# Altium integrated library NSC LDO.IntLib: 2590 symbols (part 9 of 64)
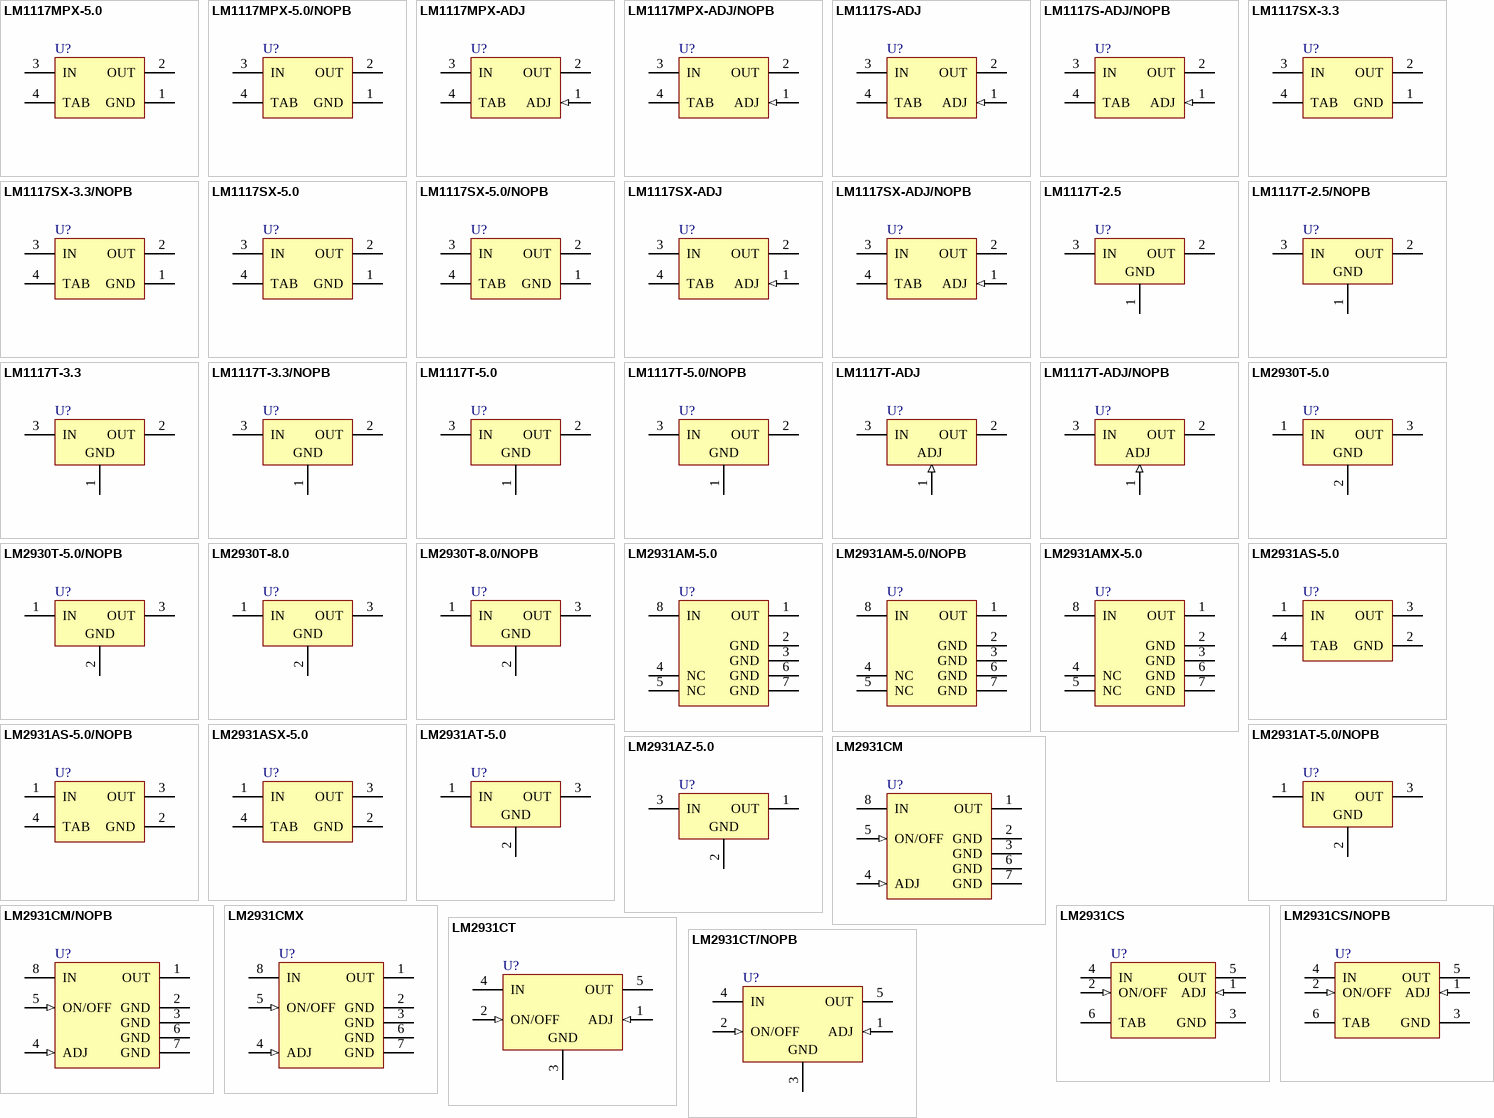
[diagram p73: symbols LM1117MPX-5.0 to LM2931CT/NOPB]

## LM2931CM/NOPB
designator U?
Series Low Dropout Regulators, 8-pin Narrow SOIC, Pb-Free; PartNumber: LM2931CM/NOPB; Manufacturer: National Semiconductor; PackageTopMarking: NSZXTT*LM29*31CM; PowerWise: N; CompType: LDO IC; Published: 1-Mar-2010; DatasheetVersion: Jul-2005; PackageVersion: revM, May-2009; PackageReference: M08A; Publisher: Altium Limited; PackageDescription: SOIC Narrow, 4.9 x 3.9 x 1.45mm, 8 Lead, 1.27mm Pitch; Supplier 1: Digi-Key; Supplier Part Number 1: LM2931CM-ND; Supplier 2: Farnell; Supplier Part Number 2: 1496124; RoHS: Y; PinCount: 8; Code_JEDEC: MS-012-AA; Code_IPC: SOIC127P600-8; ComponentLink1Description: LM2931 Datasheet; ComponentLink1URL: http://www.national.com/ds/LM/LM2931.pdf; ComponentLink2Description: LM2931 Web Page; ComponentLink2URL: http://www.national.com/pf/LM/LM2931.html; ComponentLink3Description: M08A Package Page; ComponentLink3URL: http://www.national.com/packaging/folders/m08a.html
footprint M08A_N (SOIC, 8-Leads, Body 4.9x3.9mm, Pitch 1.27mm, IPC Medium Density)
footprint M08A_L (SOIC, 8-Leads, Body 4.9x3.9mm, Pitch 1.27mm, IPC High Density)
footprint M08A_M (SOIC, 8-Leads, Body 4.9x3.9mm, Pitch 1.27mm, IPC Low Density)
pins: 1 OUT (power), 2 GND (power), 3 GND (power), 4 ADJ (in), 5 ON/OFF (in), 6 GND (power), 7 GND (power), 8 IN (power)

## LM2931CMX
designator U?
Series Low Dropout Regulators, 8-pin Narrow SOIC; PartNumber: LM2931CMX; Manufacturer: National Semiconductor; PackageTopMarking: NSZXTT*LM29*31CM; PowerWise: N; CompType: LDO IC; Published: 1-Mar-2010; DatasheetVersion: Jul-2005; PackageVersion: revM, May-2009; PackageReference: M08A; Publisher: Altium Limited; PackageDescription: SOIC Narrow, 4.9 x 3.9 x 1.45mm, 8 Lead, 1.27mm Pitch; RoHS: N; PinCount: 8; Code_JEDEC: MS-012-AA; Code_IPC: SOIC127P600-8; ComponentLink1Description: LM2931 Datasheet; ComponentLink1URL: http://www.national.com/ds/LM/LM2931.pdf; ComponentLink2Description: LM2931 Web Page; ComponentLink2URL: http://www.national.com/pf/LM/LM2931.html; ComponentLink3Description: M08A Package Page; ComponentLink3URL: http://www.national.com/packaging/folders/m08a.html
footprint M08A_N (SOIC, 8-Leads, Body 4.9x3.9mm, Pitch 1.27mm, IPC Medium Density)
footprint M08A_L (SOIC, 8-Leads, Body 4.9x3.9mm, Pitch 1.27mm, IPC High Density)
footprint M08A_M (SOIC, 8-Leads, Body 4.9x3.9mm, Pitch 1.27mm, IPC Low Density)
pins: 1 OUT (power), 2 GND (power), 3 GND (power), 4 ADJ (in), 5 ON/OFF (in), 6 GND (power), 7 GND (power), 8 IN (power)

## LM2931CS
designator U?
Series Low Dropout Regulators, 5-pin TO-263; PartNumber: LM2931CS; Manufacturer: National Semiconductor; PackageTopMarking: NSUZXYTTE#*LM2931CS; PowerWise: N; CompType: LDO IC; Published: 4-Dec-2008; DatasheetVersion: Jul-2005; PackageVersion: revD, Apr-2005; PackageReference: TS5B; Publisher: Altium Limited; PackageDescription: TO-263, Molded, .400 x .390 x .180in, 5 Lead, .067in Pitch, Surface Mount; Supplier 1: Digi-Key; Supplier Part Number 1: LM2931CS-ND; RoHS: N; PinCount: 5; Code_JEDEC: MO-169-AB; ComponentLink1Description: LM2931 Datasheet; ComponentLink1URL: http://www.national.com/ds/LM/LM2931.pdf; ComponentLink2Description: LM2931 Web Page; ComponentLink2URL: http://www.national.com/pf/LM/LM2931.html; ComponentLink3Description: TS5B Package Page; ComponentLink3URL: http://www.national.com/packaging/folders/ts5b.html
footprint TS5B_N (D2-PAK, 6-Leads, Body 8.6x10.2mm, Pitch 1.7mm, Lead Span 14.1mm, IPC Medium Density)
footprint TS5B_L (D2-PAK, 6-Leads, Body 8.6x10.2mm, Pitch 1.7mm, Lead Span 14.1mm, IPC High Density)
footprint TS5B_M (D2-PAK, 6-Leads, Body 8.6x10.2mm, Pitch 1.7mm, Lead Span 14.1mm, IPC Low Density)
pins: 1 ADJ (in), 2 ON/OFF (in), 3 GND (power), 4 IN (power), 5 OUT (power), 6 TAB (power)

## LM2931CS/NOPB
designator U?
Series Low Dropout Regulators, 5-pin TO-263, Pb-Free; PartNumber: LM2931CS/NOPB; Manufacturer: National Semiconductor; PackageTopMarking: NSUZXYTTE#*LM2931CS; PowerWise: N; CompType: LDO IC; Published: 1-Mar-2010; DatasheetVersion: Jul-2005; PackageVersion: revD, Apr-2005; PackageReference: TS5B; Publisher: Altium Limited; PackageDescription: TO-263, Molded, .400 x .390 x .180in, 5 Lead, .067in Pitch, Surface Mount; Supplier 1: Digi-Key; Supplier Part Number 1: LM2931CS/NOPB-ND; Supplier 2: Farnell; Supplier Part Number 2: 1685505; RoHS: Y; PinCount: 5; Code_JEDEC: MO-169-AB; ComponentLink1Description: LM2931 Datasheet; ComponentLink1URL: http://www.national.com/ds/LM/LM2931.pdf; ComponentLink2Description: LM2931 Web Page; ComponentLink2URL: http://www.national.com/pf/LM/LM2931.html; ComponentLink3Description: TS5B Package Page; ComponentLink3URL: http://www.national.com/packaging/folders/ts5b.html
footprint TS5B_N (D2-PAK, 6-Leads, Body 8.6x10.2mm, Pitch 1.7mm, Lead Span 14.1mm, IPC Medium Density)
footprint TS5B_L (D2-PAK, 6-Leads, Body 8.6x10.2mm, Pitch 1.7mm, Lead Span 14.1mm, IPC High Density)
footprint TS5B_M (D2-PAK, 6-Leads, Body 8.6x10.2mm, Pitch 1.7mm, Lead Span 14.1mm, IPC Low Density)
pins: 1 ADJ (in), 2 ON/OFF (in), 3 GND (power), 4 IN (power), 5 OUT (power), 6 TAB (power)

## LM2931CT
designator U?
Series Low Dropout Regulators, 5-pin TO-220; PartNumber: LM2931CT; Manufacturer: National Semiconductor; PackageTopMarking: NSUZXYTTE#*LM2931CT; PowerWise: N; CompType: LDO IC; Published: 4-Dec-2008; DatasheetVersion: Jul-2005; PackageVersion: revJ, Jan-1992; PackageReference: T05A; Publisher: Altium Limited; PackageDescription: TO-220, Molded, 5 Lead, Straight; Supplier 1: Farnell; Supplier Part Number 1: 9489363; RoHS: N; PinCount: 5; Code_JEDEC: TO-220-AB; ComponentLink1Description: LM2931 Datasheet; ComponentLink1URL: http://www.national.com/ds/LM/LM2931.pdf; ComponentLink2Description: LM2931 Web Page; ComponentLink2URL: http://www.national.com/pf/LM/LM2931.html; ComponentLink3Description: T05A Package Page; ComponentLink3URL: http://www.national.com/packaging/folders/t05a.html
footprint T05A (TO, Thru-Hole, Vertical, Heatsink Mounted; 5 In-Line Leads; Pitch 1.70 mm)
pins: 1 ADJ (in), 2 ON/OFF (in), 3 GND (power), 4 IN (power), 5 OUT (power)

## LM2931CT/NOPB
designator U?
Series Low Dropout Regulators, 5-pin TO-220, Pb-Free; PartNumber: LM2931CT/NOPB; Manufacturer: National Semiconductor; PackageTopMarking: NSUZXYTTE#*LM2931CT; PowerWise: N; CompType: LDO IC; Published: 1-Mar-2010; DatasheetVersion: Jul-2005; PackageVersion: revJ, Jan-1992; PackageReference: T05A; Publisher: Altium Limited; PackageDescription: TO-220, Molded, 5 Lead, Straight; Supplier 1: Digi-Key; Supplier Part Number 1: LM2931CTNS-ND; Supplier 2: Farnell; Supplier Part Number 2: 1150128; RoHS: Y; PinCount: 5; Code_JEDEC: TO-220-AB; ComponentLink1Description: LM2931 Datasheet; ComponentLink1URL: http://www.national.com/ds/LM/LM2931.pdf; ComponentLink2Description: LM2931 Web Page; ComponentLink2URL: http://www.national.com/pf/LM/LM2931.html; ComponentLink3Description: T05A Package Page; ComponentLink3URL: http://www.national.com/packaging/folders/t05a.html
footprint T05A (TO, Thru-Hole, Vertical, Heatsink Mounted; 5 In-Line Leads; Pitch 1.70 mm)
pins: 1 ADJ (in), 2 ON/OFF (in), 3 GND (power), 4 IN (power), 5 OUT (power)

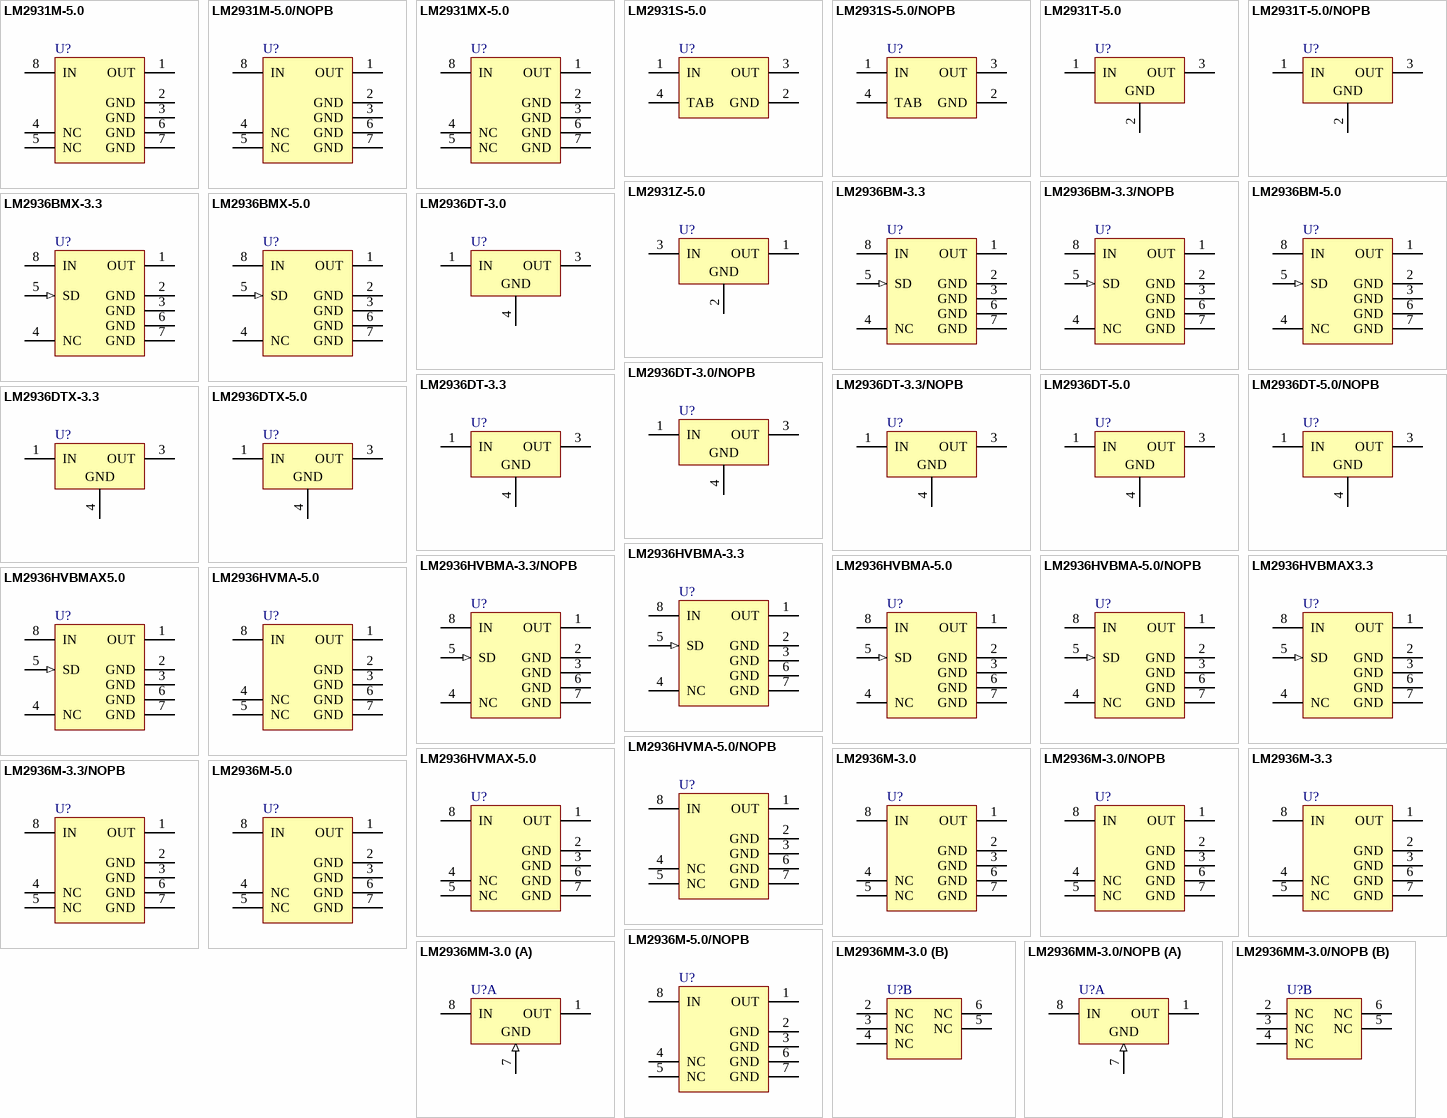
[diagram p9: symbols LM2931M-5.0 to LM2936MM-3.0/NOPB]

## LM2931M-5.0
designator U?
Series Low Dropout Regulators, 8-pin Narrow SOIC; PartNumber: LM2931M-5.0; Manufacturer: National Semiconductor; PackageTopMarking: NSZXTT*2931*M-5.0; PowerWise: N; CompType: LDO IC; Published: 4-Dec-2008; DatasheetVersion: Jul-2005; PackageVersion: revM, May-2009; PackageReference: M08A; Publisher: Altium Limited; PackageDescription: SOIC Narrow, 4.9 x 3.9 x 1.45mm, 8 Lead, 1.27mm Pitch; Supplier 1: Farnell; Supplier Part Number 1: 9493433; RoHS: N; PinCount: 8; Code_JEDEC: MS-012-AA; Code_IPC: SOIC127P600-8; ComponentLink1Description: LM2931 Datasheet; ComponentLink1URL: http://www.national.com/ds/LM/LM2931.pdf; ComponentLink2Description: LM2931 Web Page; ComponentLink2URL: http://www.national.com/pf/LM/LM2931.html; ComponentLink3Description: M08A Package Page; ComponentLink3URL: http://www.national.com/packaging/folders/m08a.html
footprint M08A_N (SOIC, 8-Leads, Body 4.9x3.9mm, Pitch 1.27mm, IPC Medium Density)
footprint M08A_L (SOIC, 8-Leads, Body 4.9x3.9mm, Pitch 1.27mm, IPC High Density)
footprint M08A_M (SOIC, 8-Leads, Body 4.9x3.9mm, Pitch 1.27mm, IPC Low Density)
pins: 1 OUT (power), 2 GND (power), 3 GND (power), 4 NC, 5 NC, 6 GND (power), 7 GND (power), 8 IN (power)

## LM2931M-5.0/NOPB
designator U?
Series Low Dropout Regulators, 8-pin Narrow SOIC, Pb-Free; PartNumber: LM2931M-5.0/NOPB; Manufacturer: National Semiconductor; PackageTopMarking: NSZXTT*2931*M-5.0; PowerWise: N; CompType: LDO IC; Published: 1-Mar-2010; DatasheetVersion: Jul-2005; PackageVersion: revM, May-2009; PackageReference: M08A; Publisher: Altium Limited; PackageDescription: SOIC Narrow, 4.9 x 3.9 x 1.45mm, 8 Lead, 1.27mm Pitch; Supplier 1: Digi-Key; Supplier Part Number 1: LM2931M-5.0-ND; Supplier 2: Farnell; Supplier Part Number 2: 1564639; RoHS: Y; PinCount: 8; Code_JEDEC: MS-012-AA; Code_IPC: SOIC127P600-8; ComponentLink1Description: LM2931 Datasheet; ComponentLink1URL: http://www.national.com/ds/LM/LM2931.pdf; ComponentLink2Description: LM2931 Web Page; ComponentLink2URL: http://www.national.com/pf/LM/LM2931.html; ComponentLink3Description: M08A Package Page; ComponentLink3URL: http://www.national.com/packaging/folders/m08a.html
footprint M08A_N (SOIC, 8-Leads, Body 4.9x3.9mm, Pitch 1.27mm, IPC Medium Density)
footprint M08A_L (SOIC, 8-Leads, Body 4.9x3.9mm, Pitch 1.27mm, IPC High Density)
footprint M08A_M (SOIC, 8-Leads, Body 4.9x3.9mm, Pitch 1.27mm, IPC Low Density)
pins: 1 OUT (power), 2 GND (power), 3 GND (power), 4 NC, 5 NC, 6 GND (power), 7 GND (power), 8 IN (power)

## LM2931MX-5.0
designator U?
Series Low Dropout Regulators, 8-pin Narrow SOIC; PartNumber: LM2931MX-5.0; Manufacturer: National Semiconductor; PackageTopMarking: NSZXTT*2931*M-5.0; PowerWise: N; CompType: LDO IC; Published: 1-Mar-2010; DatasheetVersion: Jul-2005; PackageVersion: revM, May-2009; PackageReference: M08A; Publisher: Altium Limited; PackageDescription: SOIC Narrow, 4.9 x 3.9 x 1.45mm, 8 Lead, 1.27mm Pitch; RoHS: N; PinCount: 8; Code_JEDEC: MS-012-AA; Code_IPC: SOIC127P600-8; ComponentLink1Description: LM2931 Datasheet; ComponentLink1URL: http://www.national.com/ds/LM/LM2931.pdf; ComponentLink2Description: LM2931 Web Page; ComponentLink2URL: http://www.national.com/pf/LM/LM2931.html; ComponentLink3Description: M08A Package Page; ComponentLink3URL: http://www.national.com/packaging/folders/m08a.html
footprint M08A_N (SOIC, 8-Leads, Body 4.9x3.9mm, Pitch 1.27mm, IPC Medium Density)
footprint M08A_L (SOIC, 8-Leads, Body 4.9x3.9mm, Pitch 1.27mm, IPC High Density)
footprint M08A_M (SOIC, 8-Leads, Body 4.9x3.9mm, Pitch 1.27mm, IPC Low Density)
pins: 1 OUT (power), 2 GND (power), 3 GND (power), 4 NC, 5 NC, 6 GND (power), 7 GND (power), 8 IN (power)

## LM2931S-5.0
designator U?
Series Low Dropout Regulators, 3-pin TO-263; PartNumber: LM2931S-5.0; Manufacturer: National Semiconductor; PackageTopMarking: NSUZXYTTE#*LM2931S*5.0; PowerWise: N; CompType: LDO IC; Published: 4-Dec-2008; DatasheetVersion: Jul-2005; PackageVersion: revF, Apr-2005; PackageReference: TS3B; Publisher: Altium Limited; PackageDescription: TO-263, Molded, .400 x .390 x .180in, 3 Lead, .1in Pitch, Surface Mount; RoHS: N; PinCount: 3; Code_JEDEC: MO-169-AA; ComponentLink1Description: LM2931 Datasheet; ComponentLink1URL: http://www.national.com/ds/LM/LM2931.pdf; ComponentLink2Description: LM2931 Web Page; ComponentLink2URL: http://www.national.com/pf/LM/LM2931.html; ComponentLink3Description: TS3B Package Page; ComponentLink3URL: http://www.national.com/packaging/folders/ts3b.html
footprint TS3B_N (D2-PAK, 4-Leads, Body 8.6x10.2mm, Pitch 2.54mm, Lead Span 14.2mm, IPC Medium Density)
footprint TS3B_L (D2-PAK, 4-Leads, Body 8.6x10.2mm, Pitch 2.54mm, Lead Span 14.2mm, IPC High Density)
footprint TS3B_M (D2-PAK, 4-Leads, Body 8.6x10.2mm, Pitch 2.54mm, Lead Span 14.2mm, IPC Low Density)
pins: 1 IN (power), 2 GND (power), 3 OUT (power), 4 TAB (power)

## LM2931S-5.0/NOPB
designator U?
Series Low Dropout Regulators, 3-pin TO-263, Pb-Free; PartNumber: LM2931S-5.0/NOPB; Manufacturer: National Semiconductor; PackageTopMarking: NSUZXYTTE#*LM2931S*5.0; PowerWise: N; CompType: LDO IC; Published: 1-Mar-2010; DatasheetVersion: Jul-2005; PackageVersion: revF, Apr-2005; PackageReference: TS3B; Publisher: Altium Limited; PackageDescription: TO-263, Molded, .400 x .390 x .180in, 3 Lead, .1in Pitch, Surface Mount; Supplier 1: Digi-Key; Supplier Part Number 1: LM2931S-5.0-ND; Supplier 2: Farnell; Supplier Part Number 2: 1685635; RoHS: Y; PinCount: 3; Code_JEDEC: MO-169-AA; ComponentLink1Description: LM2931 Datasheet; ComponentLink1URL: http://www.national.com/ds/LM/LM2931.pdf; ComponentLink2Description: LM2931 Web Page; ComponentLink2URL: http://www.national.com/pf/LM/LM2931.html; ComponentLink3Description: TS3B Package Page; ComponentLink3URL: http://www.national.com/packaging/folders/ts3b.html
footprint TS3B_N (D2-PAK, 4-Leads, Body 8.6x10.2mm, Pitch 2.54mm, Lead Span 14.2mm, IPC Medium Density)
footprint TS3B_L (D2-PAK, 4-Leads, Body 8.6x10.2mm, Pitch 2.54mm, Lead Span 14.2mm, IPC High Density)
footprint TS3B_M (D2-PAK, 4-Leads, Body 8.6x10.2mm, Pitch 2.54mm, Lead Span 14.2mm, IPC Low Density)
pins: 1 IN (power), 2 GND (power), 3 OUT (power), 4 TAB (power)

## LM2931T-5.0
designator U?
Series Low Dropout Regulators, 3-pin TO-220; PartNumber: LM2931T-5.0; Manufacturer: National Semiconductor; PackageTopMarking: NSUZXYTTE#*LM2931T*5.0; PowerWise: N; CompType: LDO IC; Published: 4-Dec-2008; DatasheetVersion: Jul-2005; PackageVersion: revL, Jan-1992; PackageReference: T03B; Publisher: Altium Limited; PackageDescription: TO-220, Molded, 3 Lead, Straight; Supplier 1: Farnell; Supplier Part Number 1: 9489614; RoHS: N; PinCount: 3; ComponentLink1Description: LM2931 Datasheet; ComponentLink1URL: http://www.national.com/ds/LM/LM2931.pdf; ComponentLink2Description: LM2931 Web Page; ComponentLink2URL: http://www.national.com/pf/LM/LM2931.html; ComponentLink3Description: T03B Package Page; ComponentLink3URL: http://www.national.com/packaging/folders/t03b.html
footprint T03B (TO, Thru-Hole, Vertical, Heatsink Mounted; 3 In-Line Leads; Pitch 2.54 mm)
pins: 1 IN (power), 2 GND (power), 3 OUT (power)

## LM2931T-5.0/NOPB
designator U?
Series Low Dropout Regulators, 3-pin TO-220, Pb-Free; PartNumber: LM2931T-5.0/NOPB; Manufacturer: National Semiconductor; PackageTopMarking: NSUZXYTTE#*LM2931T*5.0; PowerWise: N; CompType: LDO IC; Published: 1-Mar-2010; DatasheetVersion: Jul-2005; PackageVersion: revL, Jan-1992; PackageReference: T03B; Publisher: Altium Limited; PackageDescription: TO-220, Molded, 3 Lead, Straight; Supplier 1: Digi-Key; Supplier Part Number 1: LM2931T-5.0NS-ND; Supplier 2: Farnell; Supplier Part Number 2: 1150130; RoHS: Y; PinCount: 3; ComponentLink1Description: LM2931 Datasheet; ComponentLink1URL: http://www.national.com/ds/LM/LM2931.pdf; ComponentLink2Description: LM2931 Web Page; ComponentLink2URL: http://www.national.com/pf/LM/LM2931.html; ComponentLink3Description: T03B Package Page; ComponentLink3URL: http://www.national.com/packaging/folders/t03b.html
footprint T03B (TO, Thru-Hole, Vertical, Heatsink Mounted; 3 In-Line Leads; Pitch 2.54 mm)
pins: 1 IN (power), 2 GND (power), 3 OUT (power)

## LM2931Z-5.0
designator U?
Series Low Dropout Regulators, 3-pin TO-92; PartNumber: LM2931Z-5.0; Manufacturer: National Semiconductor; PackageTopMarking: NSXYTT*LM293*1Z-5; PowerWise: N; CompType: LDO IC; Published: 4-Dec-2008; DatasheetVersion: Jul-2005; PackageVersion: revG, Sep-2000; PackageReference: Z03A; Publisher: Altium Limited; PackageDescription: TO-92, Molded, 3 Lead; Supplier 1: Farnell; Supplier Part Number 1: 9489568; RoHS: N; PinCount: 3; Code_JEDEC: TO-226-AA; ComponentLink1Description: LM2931 Datasheet; ComponentLink1URL: http://www.national.com/ds/LM/LM2931.pdf; ComponentLink2Description: LM2931 Web Page; ComponentLink2URL: http://www.national.com/pf/LM/LM2931.html; ComponentLink3Description: Z03A Package Page; ComponentLink3URL: http://www.national.com/packaging/folders/z03a.html
footprint Z03A (TO, Flat Index; 3 In-Line, Axial Leads; Body Dia. 5mm; Leads 0.55 x 0.50 mm (max))
pins: 1 OUT (power), 2 GND (power), 3 IN (power)

## LM2936BM-3.3
designator U?
Ultra-Low Quiescent Current LDO Voltage Regulator, 8-pin Narrow SOIC; PartNumber: LM2936BM-3.3; Manufacturer: National Semiconductor; PackageTopMarking: NSZXTT*LM293*6B3.3; PowerWise: N; CompType: LDO IC; Published: 4-Dec-2008; DatasheetVersion: Oct-2006; PackageVersion: revM, May-2009; PackageReference: M08A; Publisher: Altium Limited; PackageDescription: SOIC Narrow, 4.9 x 3.9 x 1.45mm, 8 Lead, 1.27mm Pitch; RoHS: N; PinCount: 8; Code_JEDEC: MS-012-AA; Code_IPC: SOIC127P600-8; ComponentLink1Description: LM2936 Datasheet; ComponentLink1URL: http://www.national.com/ds/LM/LM2936.pdf; ComponentLink2Description: LM2936 Web Page; ComponentLink2URL: http://www.national.com/pf/LM/LM2936.html; ComponentLink3Description: M08A Package Page; ComponentLink3URL: http://www.national.com/packaging/folders/m08a.html
footprint M08A_N (SOIC, 8-Leads, Body 4.9x3.9mm, Pitch 1.27mm, IPC Medium Density)
footprint M08A_L (SOIC, 8-Leads, Body 4.9x3.9mm, Pitch 1.27mm, IPC High Density)
footprint M08A_M (SOIC, 8-Leads, Body 4.9x3.9mm, Pitch 1.27mm, IPC Low Density)
pins: 1 OUT (power), 2 GND (power), 3 GND (power), 4 NC, 5 SD (in), 6 GND (power), 7 GND (power), 8 IN (power)

## LM2936BM-3.3/NOPB
designator U?
Ultra-Low Quiescent Current LDO Voltage Regulator, 8-pin Narrow SOIC, Pb-Free; PartNumber: LM2936BM-3.3/NOPB; Manufacturer: National Semiconductor; PackageTopMarking: NSZXTT*LM293*6B3.3; PowerWise: N; CompType: LDO IC; Published: 1-Mar-2010; DatasheetVersion: Oct-2006; PackageVersion: revM, May-2009; PackageReference: M08A; Publisher: Altium Limited; PackageDescription: SOIC Narrow, 4.9 x 3.9 x 1.45mm, 8 Lead, 1.27mm Pitch; Supplier 1: Digi-Key; Supplier Part Number 1: LM2936BM-3.3-ND; Supplier 2: Farnell; Supplier Part Number 2: 1150132; RoHS: Y; PinCount: 8; Code_JEDEC: MS-012-AA; Code_IPC: SOIC127P600-8; ComponentLink1Description: LM2936 Datasheet; ComponentLink1URL: http://www.national.com/ds/LM/LM2936.pdf; ComponentLink2Description: LM2936 Web Page; ComponentLink2URL: http://www.national.com/pf/LM/LM2936.html; ComponentLink3Description: M08A Package Page; ComponentLink3URL: http://www.national.com/packaging/folders/m08a.html
footprint M08A_N (SOIC, 8-Leads, Body 4.9x3.9mm, Pitch 1.27mm, IPC Medium Density)
footprint M08A_L (SOIC, 8-Leads, Body 4.9x3.9mm, Pitch 1.27mm, IPC High Density)
footprint M08A_M (SOIC, 8-Leads, Body 4.9x3.9mm, Pitch 1.27mm, IPC Low Density)
pins: 1 OUT (power), 2 GND (power), 3 GND (power), 4 NC, 5 SD (in), 6 GND (power), 7 GND (power), 8 IN (power)

## LM2936BM-5.0
designator U?
Ultra-Low Quiescent Current LDO Voltage Regulator, 8-pin Narrow SOIC; PartNumber: LM2936BM-5.0; Manufacturer: National Semiconductor; PackageTopMarking: NSZXTT*LM293*6B5.0; PowerWise: N; CompType: LDO IC; Published: 4-Dec-2008; DatasheetVersion: Oct-2006; PackageVersion: revM, May-2009; PackageReference: M08A; Publisher: Altium Limited; PackageDescription: SOIC Narrow, 4.9 x 3.9 x 1.45mm, 8 Lead, 1.27mm Pitch; Supplier 1: Digi-Key; Supplier Part Number 1: LM2936BM-5.0-ND; RoHS: N; PinCount: 8; Code_JEDEC: MS-012-AA; Code_IPC: SOIC127P600-8; ComponentLink1Description: LM2936 Datasheet; ComponentLink1URL: http://www.national.com/ds/LM/LM2936.pdf; ComponentLink2Description: LM2936 Web Page; ComponentLink2URL: http://www.national.com/pf/LM/LM2936.html; ComponentLink3Description: M08A Package Page; ComponentLink3URL: http://www.national.com/packaging/folders/m08a.html
footprint M08A_N (SOIC, 8-Leads, Body 4.9x3.9mm, Pitch 1.27mm, IPC Medium Density)
footprint M08A_L (SOIC, 8-Leads, Body 4.9x3.9mm, Pitch 1.27mm, IPC High Density)
footprint M08A_M (SOIC, 8-Leads, Body 4.9x3.9mm, Pitch 1.27mm, IPC Low Density)
pins: 1 OUT (power), 2 GND (power), 3 GND (power), 4 NC, 5 SD (in), 6 GND (power), 7 GND (power), 8 IN (power)

## LM2936BMX-3.3
designator U?
Ultra-Low Quiescent Current LDO Voltage Regulator, 8-pin Narrow SOIC; PartNumber: LM2936BMX-3.3; Manufacturer: National Semiconductor; PackageTopMarking: NSZXTT*LM293*6B3.3; PowerWise: N; CompType: LDO IC; Published: 1-Mar-2010; DatasheetVersion: Oct-2006; PackageVersion: revM, May-2009; PackageReference: M08A; Publisher: Altium Limited; PackageDescription: SOIC Narrow, 4.9 x 3.9 x 1.45mm, 8 Lead, 1.27mm Pitch; RoHS: N; PinCount: 8; Code_JEDEC: MS-012-AA; Code_IPC: SOIC127P600-8; ComponentLink1Description: LM2936 Datasheet; ComponentLink1URL: http://www.national.com/ds/LM/LM2936.pdf; ComponentLink2Description: LM2936 Web Page; ComponentLink2URL: http://www.national.com/pf/LM/LM2936.html; ComponentLink3Description: M08A Package Page; ComponentLink3URL: http://www.national.com/packaging/folders/m08a.html
footprint M08A_N (SOIC, 8-Leads, Body 4.9x3.9mm, Pitch 1.27mm, IPC Medium Density)
footprint M08A_L (SOIC, 8-Leads, Body 4.9x3.9mm, Pitch 1.27mm, IPC High Density)
footprint M08A_M (SOIC, 8-Leads, Body 4.9x3.9mm, Pitch 1.27mm, IPC Low Density)
pins: 1 OUT (power), 2 GND (power), 3 GND (power), 4 NC, 5 SD (in), 6 GND (power), 7 GND (power), 8 IN (power)

## LM2936BMX-5.0
designator U?
Ultra-Low Quiescent Current LDO Voltage Regulator, 8-pin Narrow SOIC; PartNumber: LM2936BMX-5.0; Manufacturer: National Semiconductor; PackageTopMarking: NSZXTT*LM293*6B5.0; PowerWise: N; CompType: LDO IC; Published: 1-Mar-2010; DatasheetVersion: Oct-2006; PackageVersion: revM, May-2009; PackageReference: M08A; Publisher: Altium Limited; PackageDescription: SOIC Narrow, 4.9 x 3.9 x 1.45mm, 8 Lead, 1.27mm Pitch; Supplier 1: Digi-Key; Supplier Part Number 1: LM2936BMX-5.0TR-ND; Supplier 2: Digi-Key; Supplier Part Number 2: LM2936BMX-5.0CT-ND; RoHS: N; PinCount: 8; Code_JEDEC: MS-012-AA; Code_IPC: SOIC127P600-8; ComponentLink1Description: LM2936 Datasheet; ComponentLink1URL: http://www.national.com/ds/LM/LM2936.pdf; ComponentLink2Description: LM2936 Web Page; ComponentLink2URL: http://www.national.com/pf/LM/LM2936.html; ComponentLink3Description: M08A Package Page; ComponentLink3URL: http://www.national.com/packaging/folders/m08a.html
footprint M08A_N (SOIC, 8-Leads, Body 4.9x3.9mm, Pitch 1.27mm, IPC Medium Density)
footprint M08A_L (SOIC, 8-Leads, Body 4.9x3.9mm, Pitch 1.27mm, IPC High Density)
footprint M08A_M (SOIC, 8-Leads, Body 4.9x3.9mm, Pitch 1.27mm, IPC Low Density)
pins: 1 OUT (power), 2 GND (power), 3 GND (power), 4 NC, 5 SD (in), 6 GND (power), 7 GND (power), 8 IN (power)

## LM2936DT-3.0
designator U?
Ultra-Low Quiescent Current LDO Voltage Regulator, 3-pin TO-252; PartNumber: LM2936DT-3.0; Manufacturer: National Semiconductor; PackageTopMarking: NSUZXYTT*LM2936D*T-3.0; PowerWise: N; CompType: LDO IC; Published: 4-Dec-2008; DatasheetVersion: Oct-2006; PackageVersion: revD, Feb-2009; PackageReference: TD03B; Publisher: Altium Limited; PackageDescription: TO252, Molded, Jedec, 6.8 x 6.10 x 2.30mm Body, 3 Lead, 2.28mm Pitch, Surface Mount; RoHS: N; PinCount: 3; Code_JEDEC: TO-252-AA; ComponentLink1Description: LM2936 Datasheet; ComponentLink1URL: http://www.national.com/ds/LM/LM2936.pdf; ComponentLink2Description: LM2936 Web Page; ComponentLink2URL: http://www.national.com/pf/LM/LM2936.html; ComponentLink3Description: TD03B Package Page; ComponentLink3URL: http://www.national.com/packaging/folders/td03b.html
footprint TD03B_N (D-PAK, 4-Leads, Body 6.1x6.6mm, Pitch 2.29mm, Lead Span 9.7mm, IPC Medium Density)
footprint TD03B_L (D-PAK, 4-Leads, Body 6.1x6.6mm, Pitch 2.29mm, Lead Span 9.7mm, IPC High Density)
footprint TD03B_M (D-PAK, 4-Leads, Body 6.1x6.6mm, Pitch 2.29mm, Lead Span 9.7mm, IPC Low Density)
pins: 1 IN (power), 3 OUT (power), 4 GND (power)

## LM2936DT-3.0/NOPB
designator U?
Ultra-Low Quiescent Current LDO Voltage Regulator, 3-pin TO-252, Pb-Free; PartNumber: LM2936DT-3.0/NOPB; Manufacturer: National Semiconductor; PackageTopMarking: NSUZXYTT*LM2936D*T-3.0; PowerWise: N; CompType: LDO IC; Published: 1-Mar-2010; DatasheetVersion: Oct-2006; PackageVersion: revD, Feb-2009; PackageReference: TD03B; Publisher: Altium Limited; PackageDescription: TO252, Molded, Jedec, 6.8 x 6.10 x 2.30mm Body, 3 Lead, 2.28mm Pitch, Surface Mount; Supplier 1: Digi-Key; Supplier Part Number 1: LM2936DT-3.0-ND; RoHS: Y; PinCount: 3; Code_JEDEC: TO-252-AA; ComponentLink1Description: LM2936 Datasheet; ComponentLink1URL: http://www.national.com/ds/LM/LM2936.pdf; ComponentLink2Description: LM2936 Web Page; ComponentLink2URL: http://www.national.com/pf/LM/LM2936.html; ComponentLink3Description: TD03B Package Page; ComponentLink3URL: http://www.national.com/packaging/folders/td03b.html
footprint TD03B_N (D-PAK, 4-Leads, Body 6.1x6.6mm, Pitch 2.29mm, Lead Span 9.7mm, IPC Medium Density)
footprint TD03B_L (D-PAK, 4-Leads, Body 6.1x6.6mm, Pitch 2.29mm, Lead Span 9.7mm, IPC High Density)
footprint TD03B_M (D-PAK, 4-Leads, Body 6.1x6.6mm, Pitch 2.29mm, Lead Span 9.7mm, IPC Low Density)
pins: 1 IN (power), 3 OUT (power), 4 GND (power)

## LM2936DT-3.3
designator U?
Ultra-Low Quiescent Current LDO Voltage Regulator, 3-pin TO-252; PartNumber: LM2936DT-3.3; Manufacturer: National Semiconductor; PackageTopMarking: NSUZXYTT*LM2936D*T-3.3; PowerWise: N; CompType: LDO IC; Published: 4-Dec-2008; DatasheetVersion: Oct-2006; PackageVersion: revD, Feb-2009; PackageReference: TD03B; Publisher: Altium Limited; PackageDescription: TO252, Molded, Jedec, 6.8 x 6.10 x 2.30mm Body, 3 Lead, 2.28mm Pitch, Surface Mount; RoHS: N; PinCount: 3; Code_JEDEC: TO-252-AA; ComponentLink1Description: LM2936 Datasheet; ComponentLink1URL: http://www.national.com/ds/LM/LM2936.pdf; ComponentLink2Description: LM2936 Web Page; ComponentLink2URL: http://www.national.com/pf/LM/LM2936.html; ComponentLink3Description: TD03B Package Page; ComponentLink3URL: http://www.national.com/packaging/folders/td03b.html
footprint TD03B_N (D-PAK, 4-Leads, Body 6.1x6.6mm, Pitch 2.29mm, Lead Span 9.7mm, IPC Medium Density)
footprint TD03B_L (D-PAK, 4-Leads, Body 6.1x6.6mm, Pitch 2.29mm, Lead Span 9.7mm, IPC High Density)
footprint TD03B_M (D-PAK, 4-Leads, Body 6.1x6.6mm, Pitch 2.29mm, Lead Span 9.7mm, IPC Low Density)
pins: 1 IN (power), 3 OUT (power), 4 GND (power)

## LM2936DT-3.3/NOPB
designator U?
Ultra-Low Quiescent Current LDO Voltage Regulator, 3-pin TO-252, Pb-Free; PartNumber: LM2936DT-3.3/NOPB; Manufacturer: National Semiconductor; PackageTopMarking: NSUZXYTT*LM2936D*T-3.3; PowerWise: N; CompType: LDO IC; Published: 1-Mar-2010; DatasheetVersion: Oct-2006; PackageVersion: revD, Feb-2009; PackageReference: TD03B; Publisher: Altium Limited; PackageDescription: TO252, Molded, Jedec, 6.8 x 6.10 x 2.30mm Body, 3 Lead, 2.28mm Pitch, Surface Mount; Supplier 1: Digi-Key; Supplier Part Number 1: LM2936DT-3.3-ND; RoHS: Y; PinCount: 3; Code_JEDEC: TO-252-AA; ComponentLink1Description: LM2936 Datasheet; ComponentLink1URL: http://www.national.com/ds/LM/LM2936.pdf; ComponentLink2Description: LM2936 Web Page; ComponentLink2URL: http://www.national.com/pf/LM/LM2936.html; ComponentLink3Description: TD03B Package Page; ComponentLink3URL: http://www.national.com/packaging/folders/td03b.html
footprint TD03B_N (D-PAK, 4-Leads, Body 6.1x6.6mm, Pitch 2.29mm, Lead Span 9.7mm, IPC Medium Density)
footprint TD03B_L (D-PAK, 4-Leads, Body 6.1x6.6mm, Pitch 2.29mm, Lead Span 9.7mm, IPC High Density)
footprint TD03B_M (D-PAK, 4-Leads, Body 6.1x6.6mm, Pitch 2.29mm, Lead Span 9.7mm, IPC Low Density)
pins: 1 IN (power), 3 OUT (power), 4 GND (power)

## LM2936DT-5.0
designator U?
Ultra-Low Quiescent Current LDO Voltage Regulator, 3-pin TO-252; PartNumber: LM2936DT-5.0; Manufacturer: National Semiconductor; PackageTopMarking: NSUZXYTT*LM2936D*T-5.0; PowerWise: N; CompType: LDO IC; Published: 4-Dec-2008; DatasheetVersion: Oct-2006; PackageVersion: revD, Feb-2009; PackageReference: TD03B; Publisher: Altium Limited; PackageDescription: TO252, Molded, Jedec, 6.8 x 6.10 x 2.30mm Body, 3 Lead, 2.28mm Pitch, Surface Mount; RoHS: N; PinCount: 3; Code_JEDEC: TO-252-AA; ComponentLink1Description: LM2936 Datasheet; ComponentLink1URL: http://www.national.com/ds/LM/LM2936.pdf; ComponentLink2Description: LM2936 Web Page; ComponentLink2URL: http://www.national.com/pf/LM/LM2936.html; ComponentLink3Description: TD03B Package Page; ComponentLink3URL: http://www.national.com/packaging/folders/td03b.html
footprint TD03B_N (D-PAK, 4-Leads, Body 6.1x6.6mm, Pitch 2.29mm, Lead Span 9.7mm, IPC Medium Density)
footprint TD03B_L (D-PAK, 4-Leads, Body 6.1x6.6mm, Pitch 2.29mm, Lead Span 9.7mm, IPC High Density)
footprint TD03B_M (D-PAK, 4-Leads, Body 6.1x6.6mm, Pitch 2.29mm, Lead Span 9.7mm, IPC Low Density)
pins: 1 IN (power), 3 OUT (power), 4 GND (power)

## LM2936DT-5.0/NOPB
designator U?
Ultra-Low Quiescent Current LDO Voltage Regulator, 3-pin TO-252, Pb-Free; PartNumber: LM2936DT-5.0/NOPB; Manufacturer: National Semiconductor; PackageTopMarking: NSUZXYTT*LM2936D*T-5.0; PowerWise: N; CompType: LDO IC; Published: 1-Mar-2010; DatasheetVersion: Oct-2006; PackageVersion: revD, Feb-2009; PackageReference: TD03B; Publisher: Altium Limited; PackageDescription: TO252, Molded, Jedec, 6.8 x 6.10 x 2.30mm Body, 3 Lead, 2.28mm Pitch, Surface Mount; Supplier 1: Digi-Key; Supplier Part Number 1: LM2936DT-5.0-ND; Supplier 2: Farnell; Supplier Part Number 2: 1150137; RoHS: Y; PinCount: 3; Code_JEDEC: TO-252-AA; ComponentLink1Description: LM2936 Datasheet; ComponentLink1URL: http://www.national.com/ds/LM/LM2936.pdf; ComponentLink2Description: LM2936 Web Page; ComponentLink2URL: http://www.national.com/pf/LM/LM2936.html; ComponentLink3Description: TD03B Package Page; ComponentLink3URL: http://www.national.com/packaging/folders/td03b.html
footprint TD03B_N (D-PAK, 4-Leads, Body 6.1x6.6mm, Pitch 2.29mm, Lead Span 9.7mm, IPC Medium Density)
footprint TD03B_L (D-PAK, 4-Leads, Body 6.1x6.6mm, Pitch 2.29mm, Lead Span 9.7mm, IPC High Density)
footprint TD03B_M (D-PAK, 4-Leads, Body 6.1x6.6mm, Pitch 2.29mm, Lead Span 9.7mm, IPC Low Density)
pins: 1 IN (power), 3 OUT (power), 4 GND (power)

## LM2936DTX-3.3
designator U?
Ultra-Low Quiescent Current LDO Voltage Regulator, 3-pin TO-252; PartNumber: LM2936DTX-3.3; Manufacturer: National Semiconductor; PackageTopMarking: NSUZXYTT*LM2936D*T-3.3; PowerWise: N; CompType: LDO IC; Published: 1-Mar-2010; DatasheetVersion: Oct-2006; PackageVersion: revD, Feb-2009; PackageReference: TD03B; Publisher: Altium Limited; PackageDescription: TO252, Molded, Jedec, 6.8 x 6.10 x 2.30mm Body, 3 Lead, 2.28mm Pitch, Surface Mount; RoHS: N; PinCount: 3; Code_JEDEC: TO-252-AA; ComponentLink1Description: LM2936 Datasheet; ComponentLink1URL: http://www.national.com/ds/LM/LM2936.pdf; ComponentLink2Description: LM2936 Web Page; ComponentLink2URL: http://www.national.com/pf/LM/LM2936.html; ComponentLink3Description: TD03B Package Page; ComponentLink3URL: http://www.national.com/packaging/folders/td03b.html
footprint TD03B_N (D-PAK, 4-Leads, Body 6.1x6.6mm, Pitch 2.29mm, Lead Span 9.7mm, IPC Medium Density)
footprint TD03B_L (D-PAK, 4-Leads, Body 6.1x6.6mm, Pitch 2.29mm, Lead Span 9.7mm, IPC High Density)
footprint TD03B_M (D-PAK, 4-Leads, Body 6.1x6.6mm, Pitch 2.29mm, Lead Span 9.7mm, IPC Low Density)
pins: 1 IN (power), 3 OUT (power), 4 GND (power)

## LM2936DTX-5.0
designator U?
Ultra-Low Quiescent Current LDO Voltage Regulator, 3-pin TO-252; PartNumber: LM2936DTX-5.0; Manufacturer: National Semiconductor; PackageTopMarking: NSUZXYTT*LM2936D*T-5.0; PowerWise: N; CompType: LDO IC; Published: 1-Mar-2010; DatasheetVersion: Oct-2006; PackageVersion: revD, Feb-2009; PackageReference: TD03B; Publisher: Altium Limited; PackageDescription: TO252, Molded, Jedec, 6.8 x 6.10 x 2.30mm Body, 3 Lead, 2.28mm Pitch, Surface Mount; RoHS: N; PinCount: 3; Code_JEDEC: TO-252-AA; ComponentLink1Description: LM2936 Datasheet; ComponentLink1URL: http://www.national.com/ds/LM/LM2936.pdf; ComponentLink2Description: LM2936 Web Page; ComponentLink2URL: http://www.national.com/pf/LM/LM2936.html; ComponentLink3Description: TD03B Package Page; ComponentLink3URL: http://www.national.com/packaging/folders/td03b.html
footprint TD03B_N (D-PAK, 4-Leads, Body 6.1x6.6mm, Pitch 2.29mm, Lead Span 9.7mm, IPC Medium Density)
footprint TD03B_L (D-PAK, 4-Leads, Body 6.1x6.6mm, Pitch 2.29mm, Lead Span 9.7mm, IPC High Density)
footprint TD03B_M (D-PAK, 4-Leads, Body 6.1x6.6mm, Pitch 2.29mm, Lead Span 9.7mm, IPC Low Density)
pins: 1 IN (power), 3 OUT (power), 4 GND (power)

## LM2936HVBMA-3.3
designator U?
Ultra-Low Quiescent Current LDO Voltage Regulator, 8-pin Narrow SOIC; PartNumber: LM2936HVBMA-3.3; Manufacturer: National Semiconductor; PackageTopMarking: NSZXTT*2936H*BM3.3; PowerWise: N; CompType: LDO IC; Published: 4-Dec-2008; DatasheetVersion: Oct-2006; PackageVersion: revM, May-2009; PackageReference: M08A; Publisher: Altium Limited; PackageDescription: SOIC Narrow, 4.9 x 3.9 x 1.45mm, 8 Lead, 1.27mm Pitch; Supplier 1: Farnell; Supplier Part Number 1: 1286866; RoHS: N; PinCount: 8; Code_JEDEC: MS-012-AA; Code_IPC: SOIC127P600-8; ComponentLink1Description: LM2936 Datasheet; ComponentLink1URL: http://www.national.com/ds/LM/LM2936.pdf; ComponentLink2Description: LM2936 Web Page; ComponentLink2URL: http://www.national.com/pf/LM/LM2936.html; ComponentLink3Description: M08A Package Page; ComponentLink3URL: http://www.national.com/packaging/folders/m08a.html
footprint M08A_N (SOIC, 8-Leads, Body 4.9x3.9mm, Pitch 1.27mm, IPC Medium Density)
footprint M08A_L (SOIC, 8-Leads, Body 4.9x3.9mm, Pitch 1.27mm, IPC High Density)
footprint M08A_M (SOIC, 8-Leads, Body 4.9x3.9mm, Pitch 1.27mm, IPC Low Density)
pins: 1 OUT (power), 2 GND (power), 3 GND (power), 4 NC, 5 SD (in), 6 GND (power), 7 GND (power), 8 IN (power)

## LM2936HVBMA-3.3/NOPB
designator U?
Ultra-Low Quiescent Current LDO Voltage Regulator, 8-pin Narrow SOIC, Pb-Free; PartNumber: LM2936HVBMA-3.3/NOPB; Manufacturer: National Semiconductor; PackageTopMarking: NSZXTT*2936H*BM3.3; PowerWise: N; CompType: LDO IC; Published: 1-Mar-2010; DatasheetVersion: Oct-2006; PackageVersion: revM, May-2009; PackageReference: M08A; Publisher: Altium Limited; PackageDescription: SOIC Narrow, 4.9 x 3.9 x 1.45mm, 8 Lead, 1.27mm Pitch; Supplier 1: Digi-Key; Supplier Part Number 1: LM2936HVBMA-3.3-ND; Supplier 2: Farnell; Supplier Part Number 2: 1654307; RoHS: Y; PinCount: 8; Code_JEDEC: MS-012-AA; Code_IPC: SOIC127P600-8; ComponentLink1Description: LM2936 Datasheet; ComponentLink1URL: http://www.national.com/ds/LM/LM2936.pdf; ComponentLink2Description: LM2936 Web Page; ComponentLink2URL: http://www.national.com/pf/LM/LM2936.html; ComponentLink3Description: M08A Package Page; ComponentLink3URL: http://www.national.com/packaging/folders/m08a.html
footprint M08A_N (SOIC, 8-Leads, Body 4.9x3.9mm, Pitch 1.27mm, IPC Medium Density)
footprint M08A_L (SOIC, 8-Leads, Body 4.9x3.9mm, Pitch 1.27mm, IPC High Density)
footprint M08A_M (SOIC, 8-Leads, Body 4.9x3.9mm, Pitch 1.27mm, IPC Low Density)
pins: 1 OUT (power), 2 GND (power), 3 GND (power), 4 NC, 5 SD (in), 6 GND (power), 7 GND (power), 8 IN (power)

## LM2936HVBMA-5.0
designator U?
Ultra-Low Quiescent Current LDO Voltage Regulator, 8-pin Narrow SOIC; PartNumber: LM2936HVBMA-5.0; Manufacturer: National Semiconductor; PackageTopMarking: NSZXTT*2936H*BM5.0; PowerWise: N; CompType: LDO IC; Published: 4-Dec-2008; DatasheetVersion: Oct-2006; PackageVersion: revM, May-2009; PackageReference: M08A; Publisher: Altium Limited; PackageDescription: SOIC Narrow, 4.9 x 3.9 x 1.45mm, 8 Lead, 1.27mm Pitch; Supplier 1: Farnell; Supplier Part Number 1: 1286867; RoHS: N; PinCount: 8; Code_JEDEC: MS-012-AA; Code_IPC: SOIC127P600-8; ComponentLink1Description: LM2936 Datasheet; ComponentLink1URL: http://www.national.com/ds/LM/LM2936.pdf; ComponentLink2Description: LM2936 Web Page; ComponentLink2URL: http://www.national.com/pf/LM/LM2936.html; ComponentLink3Description: M08A Package Page; ComponentLink3URL: http://www.national.com/packaging/folders/m08a.html
footprint M08A_N (SOIC, 8-Leads, Body 4.9x3.9mm, Pitch 1.27mm, IPC Medium Density)
footprint M08A_L (SOIC, 8-Leads, Body 4.9x3.9mm, Pitch 1.27mm, IPC High Density)
footprint M08A_M (SOIC, 8-Leads, Body 4.9x3.9mm, Pitch 1.27mm, IPC Low Density)
pins: 1 OUT (power), 2 GND (power), 3 GND (power), 4 NC, 5 SD (in), 6 GND (power), 7 GND (power), 8 IN (power)

## LM2936HVBMA-5.0/NOPB
designator U?
Ultra-Low Quiescent Current LDO Voltage Regulator, 8-pin Narrow SOIC, Pb-Free; PartNumber: LM2936HVBMA-5.0/NOPB; Manufacturer: National Semiconductor; PackageTopMarking: NSZXTT*2936H*BM5.0; PowerWise: N; CompType: LDO IC; Published: 1-Mar-2010; DatasheetVersion: Oct-2006; PackageVersion: revM, May-2009; PackageReference: M08A; Publisher: Altium Limited; PackageDescription: SOIC Narrow, 4.9 x 3.9 x 1.45mm, 8 Lead, 1.27mm Pitch; Supplier 1: Digi-Key; Supplier Part Number 1: LM2936HVBMA-5.0-ND; RoHS: Y; PinCount: 8; Code_JEDEC: MS-012-AA; Code_IPC: SOIC127P600-8; ComponentLink1Description: LM2936 Datasheet; ComponentLink1URL: http://www.national.com/ds/LM/LM2936.pdf; ComponentLink2Description: LM2936 Web Page; ComponentLink2URL: http://www.national.com/pf/LM/LM2936.html; ComponentLink3Description: M08A Package Page; ComponentLink3URL: http://www.national.com/packaging/folders/m08a.html
footprint M08A_N (SOIC, 8-Leads, Body 4.9x3.9mm, Pitch 1.27mm, IPC Medium Density)
footprint M08A_L (SOIC, 8-Leads, Body 4.9x3.9mm, Pitch 1.27mm, IPC High Density)
footprint M08A_M (SOIC, 8-Leads, Body 4.9x3.9mm, Pitch 1.27mm, IPC Low Density)
pins: 1 OUT (power), 2 GND (power), 3 GND (power), 4 NC, 5 SD (in), 6 GND (power), 7 GND (power), 8 IN (power)

## LM2936HVBMAX3.3
designator U?
Ultra-Low Quiescent Current LDO Voltage Regulator, 8-pin Narrow SOIC; PartNumber: LM2936HVBMAX3.3; Manufacturer: National Semiconductor; PackageTopMarking: NSZXTT*2936H*BM3.3; PowerWise: N; CompType: LDO IC; Published: 1-Mar-2010; DatasheetVersion: Oct-2006; PackageVersion: revM, May-2009; PackageReference: M08A; Publisher: Altium Limited; PackageDescription: SOIC Narrow, 4.9 x 3.9 x 1.45mm, 8 Lead, 1.27mm Pitch; RoHS: N; PinCount: 8; Code_JEDEC: MS-012-AA; Code_IPC: SOIC127P600-8; ComponentLink1Description: LM2936 Datasheet; ComponentLink1URL: http://www.national.com/ds/LM/LM2936.pdf; ComponentLink2Description: LM2936 Web Page; ComponentLink2URL: http://www.national.com/pf/LM/LM2936.html; ComponentLink3Description: M08A Package Page; ComponentLink3URL: http://www.national.com/packaging/folders/m08a.html
footprint M08A_N (SOIC, 8-Leads, Body 4.9x3.9mm, Pitch 1.27mm, IPC Medium Density)
footprint M08A_L (SOIC, 8-Leads, Body 4.9x3.9mm, Pitch 1.27mm, IPC High Density)
footprint M08A_M (SOIC, 8-Leads, Body 4.9x3.9mm, Pitch 1.27mm, IPC Low Density)
pins: 1 OUT (power), 2 GND (power), 3 GND (power), 4 NC, 5 SD (in), 6 GND (power), 7 GND (power), 8 IN (power)

## LM2936HVBMAX5.0
designator U?
Ultra-Low Quiescent Current LDO Voltage Regulator, 8-pin Narrow SOIC; PartNumber: LM2936HVBMAX5.0; Manufacturer: National Semiconductor; PackageTopMarking: NSZXTT*2936H*BM5.0; PowerWise: N; CompType: LDO IC; Published: 1-Mar-2010; DatasheetVersion: Oct-2006; PackageVersion: revM, May-2009; PackageReference: M08A; Publisher: Altium Limited; PackageDescription: SOIC Narrow, 4.9 x 3.9 x 1.45mm, 8 Lead, 1.27mm Pitch; RoHS: N; PinCount: 8; Code_JEDEC: MS-012-AA; Code_IPC: SOIC127P600-8; ComponentLink1Description: LM2936 Datasheet; ComponentLink1URL: http://www.national.com/ds/LM/LM2936.pdf; ComponentLink2Description: LM2936 Web Page; ComponentLink2URL: http://www.national.com/pf/LM/LM2936.html; ComponentLink3Description: M08A Package Page; ComponentLink3URL: http://www.national.com/packaging/folders/m08a.html
footprint M08A_N (SOIC, 8-Leads, Body 4.9x3.9mm, Pitch 1.27mm, IPC Medium Density)
footprint M08A_L (SOIC, 8-Leads, Body 4.9x3.9mm, Pitch 1.27mm, IPC High Density)
footprint M08A_M (SOIC, 8-Leads, Body 4.9x3.9mm, Pitch 1.27mm, IPC Low Density)
pins: 1 OUT (power), 2 GND (power), 3 GND (power), 4 NC, 5 SD (in), 6 GND (power), 7 GND (power), 8 IN (power)

## LM2936HVMA-5.0
designator U?
Ultra-Low Quiescent Current LDO Voltage Regulator, 8-pin Narrow SOIC; PartNumber: LM2936HVMA-5.0; Manufacturer: National Semiconductor; PackageTopMarking: NSZXTT*2936H*M-5.0; PowerWise: N; CompType: LDO IC; Published: 4-Dec-2008; DatasheetVersion: Oct-2006; PackageVersion: revM, May-2009; PackageReference: M08A; Publisher: Altium Limited; PackageDescription: SOIC Narrow, 4.9 x 3.9 x 1.45mm, 8 Lead, 1.27mm Pitch; Supplier 1: Digi-Key; Supplier Part Number 1: LM2936HVMA-5.0-ND; Supplier 2: Farnell; Supplier Part Number 2: 7614240; RoHS: N; PinCount: 8; Code_JEDEC: MS-012-AA; Code_IPC: SOIC127P600-8; ComponentLink1Description: LM2936 Datasheet; ComponentLink1URL: http://www.national.com/ds/LM/LM2936.pdf; ComponentLink2Description: LM2936 Web Page; ComponentLink2URL: http://www.national.com/pf/LM/LM2936.html; ComponentLink3Description: M08A Package Page; ComponentLink3URL: http://www.national.com/packaging/folders/m08a.html
footprint M08A_N (SOIC, 8-Leads, Body 4.9x3.9mm, Pitch 1.27mm, IPC Medium Density)
footprint M08A_L (SOIC, 8-Leads, Body 4.9x3.9mm, Pitch 1.27mm, IPC High Density)
footprint M08A_M (SOIC, 8-Leads, Body 4.9x3.9mm, Pitch 1.27mm, IPC Low Density)
pins: 1 OUT (power), 2 GND (power), 3 GND (power), 4 NC, 5 NC, 6 GND (power), 7 GND (power), 8 IN (power)

## LM2936HVMA-5.0/NOPB
designator U?
Ultra-Low Quiescent Current LDO Voltage Regulator, 8-pin Narrow SOIC, Pb-Free; PartNumber: LM2936HVMA-5.0/NOPB; Manufacturer: National Semiconductor; PackageTopMarking: NSZXTT*2936H*M-5.0; PowerWise: N; CompType: LDO IC; Published: 1-Mar-2010; DatasheetVersion: Oct-2006; PackageVersion: revM, May-2009; PackageReference: M08A; Publisher: Altium Limited; PackageDescription: SOIC Narrow, 4.9 x 3.9 x 1.45mm, 8 Lead, 1.27mm Pitch; Supplier 1: Digi-Key; Supplier Part Number 1: LM2936HVMA-5.0/NOPB-ND; RoHS: Y; PinCount: 8; Code_JEDEC: MS-012-AA; Code_IPC: SOIC127P600-8; ComponentLink1Description: LM2936 Datasheet; ComponentLink1URL: http://www.national.com/ds/LM/LM2936.pdf; ComponentLink2Description: LM2936 Web Page; ComponentLink2URL: http://www.national.com/pf/LM/LM2936.html; ComponentLink3Description: M08A Package Page; ComponentLink3URL: http://www.national.com/packaging/folders/m08a.html
footprint M08A_N (SOIC, 8-Leads, Body 4.9x3.9mm, Pitch 1.27mm, IPC Medium Density)
footprint M08A_L (SOIC, 8-Leads, Body 4.9x3.9mm, Pitch 1.27mm, IPC High Density)
footprint M08A_M (SOIC, 8-Leads, Body 4.9x3.9mm, Pitch 1.27mm, IPC Low Density)
pins: 1 OUT (power), 2 GND (power), 3 GND (power), 4 NC, 5 NC, 6 GND (power), 7 GND (power), 8 IN (power)

## LM2936HVMAX-5.0
designator U?
Ultra-Low Quiescent Current LDO Voltage Regulator, 8-pin Narrow SOIC; PartNumber: LM2936HVMAX-5.0; Manufacturer: National Semiconductor; PackageTopMarking: NSZXTT*2936H*M-5.0; PowerWise: N; CompType: LDO IC; Published: 1-Mar-2010; DatasheetVersion: Oct-2006; PackageVersion: revM, May-2009; PackageReference: M08A; Publisher: Altium Limited; PackageDescription: SOIC Narrow, 4.9 x 3.9 x 1.45mm, 8 Lead, 1.27mm Pitch; Supplier 1: Digi-Key; Supplier Part Number 1: LM2936HVMAX-5.0TR-ND; Supplier 2: Digi-Key; Supplier Part Number 2: LM2936HVMAX-5.0CT-ND; RoHS: N; PinCount: 8; Code_JEDEC: MS-012-AA; Code_IPC: SOIC127P600-8; ComponentLink1Description: LM2936 Datasheet; ComponentLink1URL: http://www.national.com/ds/LM/LM2936.pdf; ComponentLink2Description: LM2936 Web Page; ComponentLink2URL: http://www.national.com/pf/LM/LM2936.html; ComponentLink3Description: M08A Package Page; ComponentLink3URL: http://www.national.com/packaging/folders/m08a.html
footprint M08A_N (SOIC, 8-Leads, Body 4.9x3.9mm, Pitch 1.27mm, IPC Medium Density)
footprint M08A_L (SOIC, 8-Leads, Body 4.9x3.9mm, Pitch 1.27mm, IPC High Density)
footprint M08A_M (SOIC, 8-Leads, Body 4.9x3.9mm, Pitch 1.27mm, IPC Low Density)
pins: 1 OUT (power), 2 GND (power), 3 GND (power), 4 NC, 5 NC, 6 GND (power), 7 GND (power), 8 IN (power)

## LM2936M-3.0
designator U?
Ultra-Low Quiescent Current LDO Voltage Regulator, 8-pin Narrow SOIC; PartNumber: LM2936M-3.0; Manufacturer: National Semiconductor; PackageTopMarking: NSZXTT*LM293*6M-3; PowerWise: N; CompType: LDO IC; Published: 4-Dec-2008; DatasheetVersion: Oct-2006; PackageVersion: revM, May-2009; PackageReference: M08A; Publisher: Altium Limited; PackageDescription: SOIC Narrow, 4.9 x 3.9 x 1.45mm, 8 Lead, 1.27mm Pitch; Supplier 1: Farnell; Supplier Part Number 1: 1286868; RoHS: N; PinCount: 8; Code_JEDEC: MS-012-AA; Code_IPC: SOIC127P600-8; ComponentLink1Description: LM2936 Datasheet; ComponentLink1URL: http://www.national.com/ds/LM/LM2936.pdf; ComponentLink2Description: LM2936 Web Page; ComponentLink2URL: http://www.national.com/pf/LM/LM2936.html; ComponentLink3Description: M08A Package Page; ComponentLink3URL: http://www.national.com/packaging/folders/m08a.html
footprint M08A_N (SOIC, 8-Leads, Body 4.9x3.9mm, Pitch 1.27mm, IPC Medium Density)
footprint M08A_L (SOIC, 8-Leads, Body 4.9x3.9mm, Pitch 1.27mm, IPC High Density)
footprint M08A_M (SOIC, 8-Leads, Body 4.9x3.9mm, Pitch 1.27mm, IPC Low Density)
pins: 1 OUT (power), 2 GND (power), 3 GND (power), 4 NC, 5 NC, 6 GND (power), 7 GND (power), 8 IN (power)

## LM2936M-3.0/NOPB
designator U?
Ultra-Low Quiescent Current LDO Voltage Regulator, 8-pin Narrow SOIC, Pb-Free; PartNumber: LM2936M-3.0/NOPB; Manufacturer: National Semiconductor; PackageTopMarking: NSZXTT*LM293*6M-3; PowerWise: N; CompType: LDO IC; Published: 1-Mar-2010; DatasheetVersion: Oct-2006; PackageVersion: revM, May-2009; PackageReference: M08A; Publisher: Altium Limited; PackageDescription: SOIC Narrow, 4.9 x 3.9 x 1.45mm, 8 Lead, 1.27mm Pitch; Supplier 1: Digi-Key; Supplier Part Number 1: LM2936M-3.0-ND; RoHS: Y; PinCount: 8; Code_JEDEC: MS-012-AA; Code_IPC: SOIC127P600-8; ComponentLink1Description: LM2936 Datasheet; ComponentLink1URL: http://www.national.com/ds/LM/LM2936.pdf; ComponentLink2Description: LM2936 Web Page; ComponentLink2URL: http://www.national.com/pf/LM/LM2936.html; ComponentLink3Description: M08A Package Page; ComponentLink3URL: http://www.national.com/packaging/folders/m08a.html
footprint M08A_N (SOIC, 8-Leads, Body 4.9x3.9mm, Pitch 1.27mm, IPC Medium Density)
footprint M08A_L (SOIC, 8-Leads, Body 4.9x3.9mm, Pitch 1.27mm, IPC High Density)
footprint M08A_M (SOIC, 8-Leads, Body 4.9x3.9mm, Pitch 1.27mm, IPC Low Density)
pins: 1 OUT (power), 2 GND (power), 3 GND (power), 4 NC, 5 NC, 6 GND (power), 7 GND (power), 8 IN (power)

## LM2936M-3.3
designator U?
Ultra-Low Quiescent Current LDO Voltage Regulator, 8-pin Narrow SOIC; PartNumber: LM2936M-3.3; Manufacturer: National Semiconductor; PackageTopMarking: NSZXTT*LM293*6-3.3; PowerWise: N; CompType: LDO IC; Published: 4-Dec-2008; DatasheetVersion: Oct-2006; PackageVersion: revM, May-2009; PackageReference: M08A; Publisher: Altium Limited; PackageDescription: SOIC Narrow, 4.9 x 3.9 x 1.45mm, 8 Lead, 1.27mm Pitch; Supplier 1: Farnell; Supplier Part Number 1: 3794295; RoHS: N; PinCount: 8; Code_JEDEC: MS-012-AA; Code_IPC: SOIC127P600-8; ComponentLink1Description: LM2936 Datasheet; ComponentLink1URL: http://www.national.com/ds/LM/LM2936.pdf; ComponentLink2Description: LM2936 Web Page; ComponentLink2URL: http://www.national.com/pf/LM/LM2936.html; ComponentLink3Description: M08A Package Page; ComponentLink3URL: http://www.national.com/packaging/folders/m08a.html
footprint M08A_N (SOIC, 8-Leads, Body 4.9x3.9mm, Pitch 1.27mm, IPC Medium Density)
footprint M08A_L (SOIC, 8-Leads, Body 4.9x3.9mm, Pitch 1.27mm, IPC High Density)
footprint M08A_M (SOIC, 8-Leads, Body 4.9x3.9mm, Pitch 1.27mm, IPC Low Density)
pins: 1 OUT (power), 2 GND (power), 3 GND (power), 4 NC, 5 NC, 6 GND (power), 7 GND (power), 8 IN (power)

## LM2936M-3.3/NOPB
designator U?
Ultra-Low Quiescent Current LDO Voltage Regulator, 8-pin Narrow SOIC, Pb-Free; PartNumber: LM2936M-3.3/NOPB; Manufacturer: National Semiconductor; PackageTopMarking: NSZXTT*LM293*6-3.3; PowerWise: N; CompType: LDO IC; Published: 1-Mar-2010; DatasheetVersion: Oct-2006; PackageVersion: revM, May-2009; PackageReference: M08A; Publisher: Altium Limited; PackageDescription: SOIC Narrow, 4.9 x 3.9 x 1.45mm, 8 Lead, 1.27mm Pitch; Supplier 1: Digi-Key; Supplier Part Number 1: LM2936M-3.3-ND; Supplier 2: Farnell; Supplier Part Number 2: 1469059; RoHS: Y; PinCount: 8; Code_JEDEC: MS-012-AA; Code_IPC: SOIC127P600-8; ComponentLink1Description: LM2936 Datasheet; ComponentLink1URL: http://www.national.com/ds/LM/LM2936.pdf; ComponentLink2Description: LM2936 Web Page; ComponentLink2URL: http://www.national.com/pf/LM/LM2936.html; ComponentLink3Description: M08A Package Page; ComponentLink3URL: http://www.national.com/packaging/folders/m08a.html
footprint M08A_N (SOIC, 8-Leads, Body 4.9x3.9mm, Pitch 1.27mm, IPC Medium Density)
footprint M08A_L (SOIC, 8-Leads, Body 4.9x3.9mm, Pitch 1.27mm, IPC High Density)
footprint M08A_M (SOIC, 8-Leads, Body 4.9x3.9mm, Pitch 1.27mm, IPC Low Density)
pins: 1 OUT (power), 2 GND (power), 3 GND (power), 4 NC, 5 NC, 6 GND (power), 7 GND (power), 8 IN (power)